# Altium footprint library SAMTEC_TSM-103-01-L-SH-P-TR.PcbLib: 1 footprints
Each footprint in its own frame and in the unit in brackets; x right, y up, seen from the top. Pads: shape width x height; smd on the part's side, far side on the other; paste and mask are expansions set on the pad; w line width, h text height; cw(c..) or ccw(c..) is an arc to the next point about the centre after c.
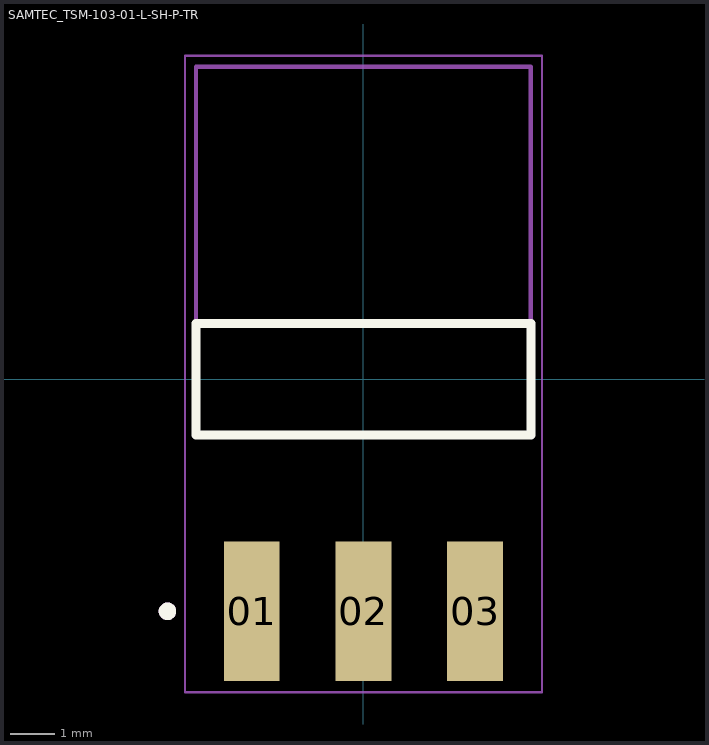
[diagram p0: the footprint, top view; thin cyan lines are the x and y axes]

## SAMTEC_TSM-103-01-L-SH-P-TR [mm]
pads (3):
  rect 1.27x3.18 smd: 01(-2.54,-5.28) 02(0,-5.28) 03(2.54,-5.28)
Top Overlay:
  circle w0.2: c-4.46,-5.28 r0.1
  lines w0.2: -3.81,-1.27 3.81,-1.27 3.81,1.27 -3.81,1.27 -3.81,-1.27
Mechanical 13:
  circle w0.2: c-4.46,-5.28 r0.1
  lines w0.1: -3.81,-1.27 -3.81,7.11 3.81,7.11 3.81,-1.27 ; -3.81,-1.27 3.81,-1.27 ; -3.81,-1.27 -3.81,1.27 3.81,1.27 3.81,-1.27
Mechanical 15:
  lines w0.05: -4.06,-7.12 4.06,-7.12 4.06,7.36 -4.06,7.36 -4.06,-7.12
3D body "TSM-103-01-L-SH-P-TR.stp": height 4.32, standoff 0, extent -3.81,-5.842 3.81,7.112